# EAGLE library part ATMEGA328P-A (library tmxk)
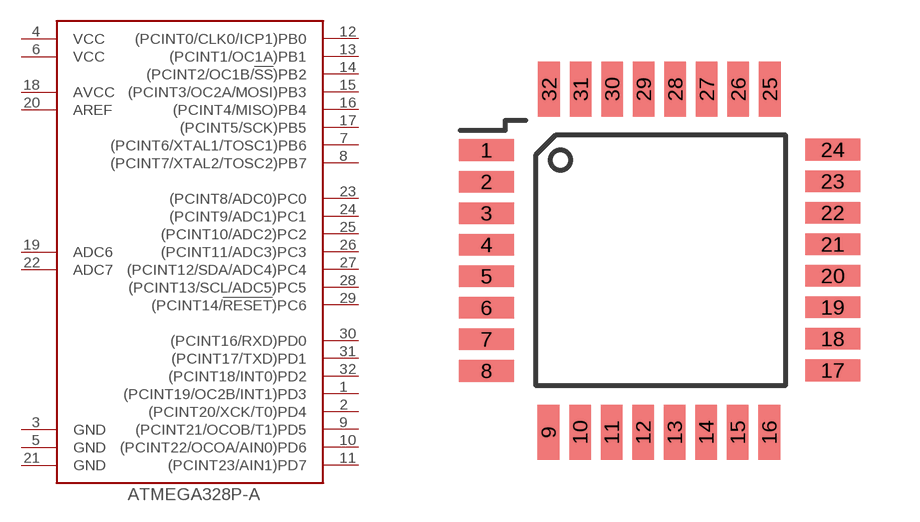
[diagram p38: symbol with the pads of TQFP32; footprint TQFP32]

Designator prefix U

## ATMEGA328P-A  [TQFP32]
1  (PCINT19/OC2B/INT1)PD3
2  (PCINT20/XCK/T0)PD4
3  GND
4  VCC
5  GND
6  VCC
7  (PCINT6/XTAL1/TOSC1)PB6
8  (PCINT7/XTAL2/TOSC2)PB7
9  (PCINT21/OCOB/T1)PD5
10  (PCINT22/OCOA/AIN0)PD6
11  (PCINT23/AIN1)PD7
12  (PCINT0/CLK0/ICP1)PB0
13  (PCINT1/OC1A)PB1
14  (PCINT2/OC1B/!SS!)PB2
15  (PCINT3/OC2A/MOSI)PB3
16  (PCINT4/MISO)PB4
17  (PCINT5/SCK)PB5
18  AVCC
19  ADC6
20  AREF
21  GND
22  ADC7
23  (PCINT8/ADC0)PC0
24  (PCINT9/ADC1)PC1
25  (PCINT10/ADC2)PC2
26  (PCINT11/ADC3)PC3
27  (PCINT12/SDA/ADC4)PC4
28  (PCINT13/SCL/ADC5)PC5
29  (PCINT14/!RESET!)PC6
30  (PCINT16/RXD)PD0
31  (PCINT17/TXD)PD1
32  (PCINT18/INT0)PD2

## Footprint TQFP32 (pad centres in mm)
smd 1.4 x 0.55: 1 -3.91,2.54; 2 -3.91,1.74; 3 -3.91,0.94; 4 -3.91,0.14; 5 -3.91,-0.66; 6 -3.91,-1.46; 7 -3.91,-2.26; 8 -3.91,-3.06; 17 4.875,-3.048; 18 4.875,-2.248; 19 4.875,-1.448; 20 4.875,-0.648; 21 4.875,0.152; 22 4.875,0.952; 23 4.875,1.752; 24 4.875,2.552
smd 0.55 x 1.4: 9 -2.337,-4.621; 10 -1.537,-4.621; 11 -0.737,-4.621; 12 0.063,-4.621; 13 0.863,-4.621; 14 1.663,-4.621; 15 2.463,-4.621; 16 3.263,-4.621; 25 3.277,4.088; 26 2.477,4.088; 27 1.677,4.088; 28 0.877,4.088; 29 0.077,4.088; 30 -0.723,4.088; 31 -1.523,4.088; 32 -2.323,4.088